# Altium schematic symbol library RES,330R,5%,0.063W,0402.Schlib: 1 symbol
Pins are listed as number, name and electrical type; pins without a type are passive.

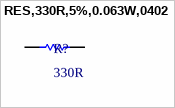
[diagram p0: symbol RES,330R,5%,0.063W,0402]

## RES,330R,5%,0.063W,0402
designator R?, comment 330R
330 Ohms ±5% 0.063W, 1/16W Chip Resistor 0402 (1005 Metric) Automotive AEC-Q200 Thick Film
pins: 1, 2